# EAGLE library part HEADER2X5-SHRD-PTH (library untitled)
Shrouded pin header, 2.54mm pitch
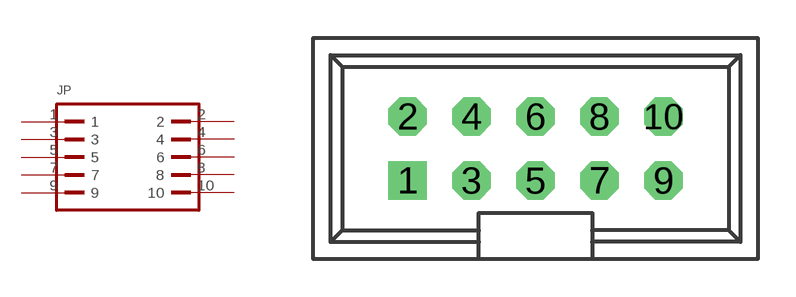
[diagram p25: symbol with the pads of PINSHRD_PTH_2X05; footprint PINSHRD_PTH_2X05]

Designator prefix JP

## HEADER2X5-SHRD-PTH  [PINSHRD_PTH_2X05]
1  1  pas
2  2  pas
3  3  pas
4  4  pas
5  5  pas
6  6  pas
7  7  pas
8  8  pas
9  9  pas
10  10  pas

## Footprint PINSHRD_PTH_2X05 (pad centres in mm)
drill 1.016 square: 1 -5.08,-1.27
drill 1.016 octagon: 2 -5.08,1.27; 3 -2.54,-1.27; 4 -2.54,1.27; 5 0,-1.27; 6 0,1.27; 7 2.54,-1.27; 8 2.54,1.27; 9 5.08,-1.27; 10 5.08,1.27